# EAGLE library part 74HC595D (library Soldering)
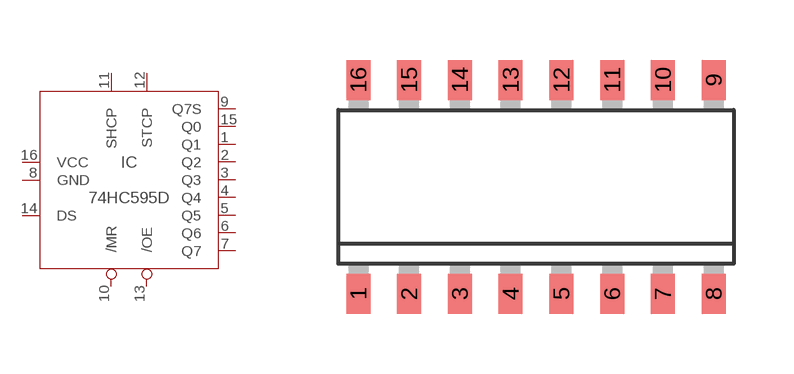
[diagram p1: symbol with the pads of SOIC-16NG; footprint SOIC-16NG]

Designator prefix IC

## 74HC595D  [SOIC-16NG]
1  Q1  pas
2  Q2  pas
3  Q3  pas
4  Q4  pas
5  Q5  pas
6  Q6  pas
7  Q7  pas
8  GND  pas
9  Q7S  pas
10  /MR  pas
11  SHCP  pas
12  STCP  pas
13  /OE  pas
14  DS  pas
15  Q0  pas
16  VCC  pas

## Footprint SOIC-16NG (pad centres in mm)
16-Lead SOIC (Narrow Body) Package Outline (NG) 9.90x3.90mm body, 1.75mm height (max), 1.27mm pitch Source: www.supertex.com .. led_driver_ics_SG.pdf
smd 0.6 x 1: 1 -4.445,-2.675; 2 -3.175,-2.675; 3 -1.905,-2.675; 4 -0.635,-2.675; 5 0.635,-2.675; 6 1.905,-2.675; 7 3.175,-2.675; 8 4.445,-2.675; 9 4.445,2.675; 10 3.175,2.675; 11 1.905,2.675; 12 0.635,2.675; 13 -0.635,2.675; 14 -1.905,2.675; 15 -3.175,2.675; 16 -4.445,2.675